# Altium footprint library CANmon.PcbLib: 21 footprints (part 1 of 2)
Each footprint in its own frame and in the unit in brackets; x right, y up, seen from the top. Pads: shape width x height; smd on the part's side, far side on the other; paste and mask are expansions set on the pad; w line width, h text height; cw(c..) or ccw(c..) is an arc to the next point about the centre after c.
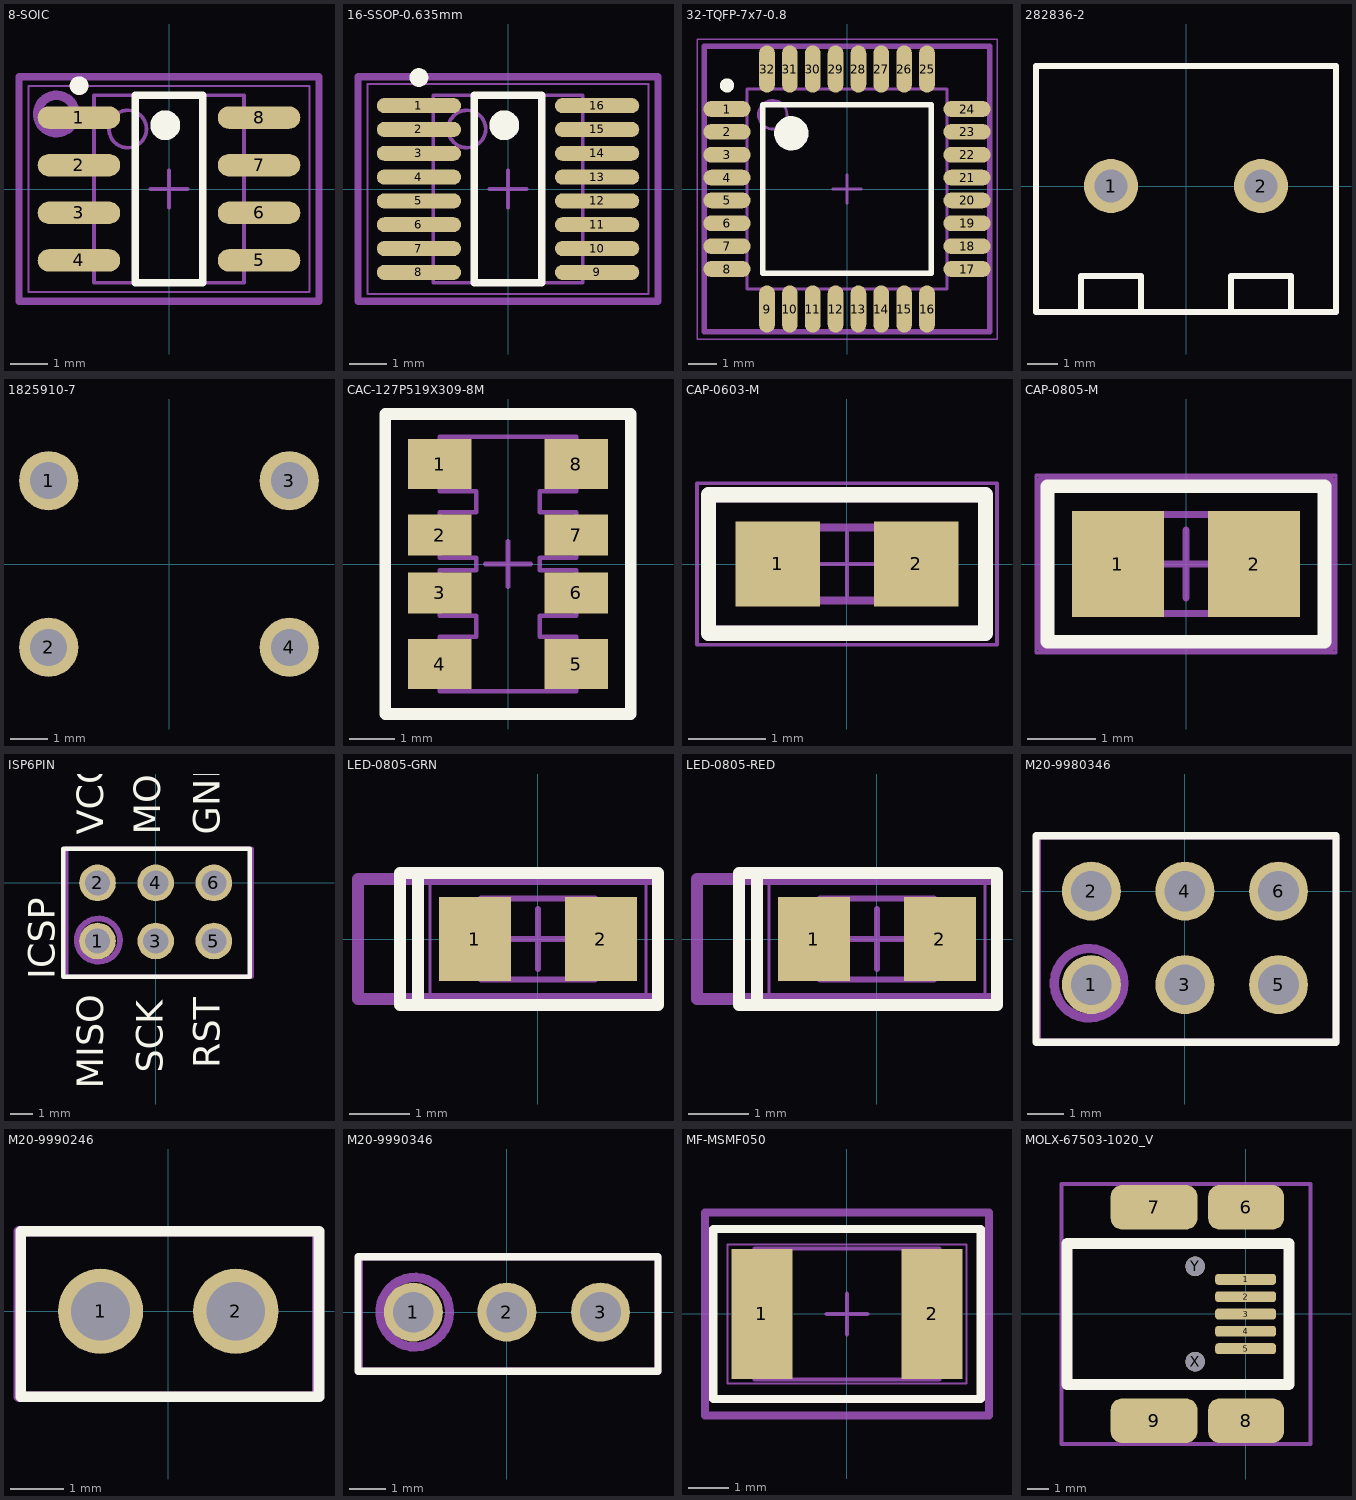
[diagram p0: the footprints below, top view; thin cyan lines are the x and y axes]

## 8-SOIC [mm] "SOIC, 8-Leads, Body 4.9x3.9mm, Pitch 1.27mm, IPC Medium Density"
height 1.75
pads (8):
  oval 2.2x0.6 smd: 1(-2.4,1.905) 2(-2.4,0.635) 3(-2.4,-0.635) 4(-2.4,-1.905) 5(2.4,-1.905) 6(2.4,-0.635) 7(2.4,0.635) 8(2.4,1.905)
Top Overlay:
  circle w0.25: c-2.4,2.755 r0.125
  circle w0.4: c-0.1,1.7 r0.2
  lines w0.2: -0.9,-2.5 -0.9,2.5 0.9,2.5 0.9,-2.5 -0.9,-2.5
Mechanical 13:
  circle w0.1: c-1.1,1.6 r0.5
  lines w0.1: -2,-2.5 -2,2.5 2,2.5 2,-2.5 -2,-2.5
Mechanical 15:
  lines w0.05: -3.75,-2.75 -3.75,2.75 3.75,2.75 3.75,-2.75 -3.75,-2.75
  lines w0.1: -0.5,0 0.5,0 ; 0,-0.5 0,0.5
Mechanical 29:
  circle w0.254: c-3,2 r0.5
  lines w0.2: -4,-3 4,-3 4,3 -4,3 -4,-3
  text ".Designator" at -2.3,-0.9 h1.52
3D body: height 1.75, standoff 0.1, extent -2,-2.5 2,2.5

## 16-SSOP-0.635mm [mm] "SOP, 16-Leads, Body 4.9x3.9mm, Pitch 0.635mm, IPC Medium Density"
height 1.76
pads (16):
  oval 2.25x0.4 smd: 1(-2.375,2.222) 2(-2.375,1.587) 3(-2.375,0.953) 4(-2.375,0.318) 5(-2.375,-0.318) 6(-2.375,-0.953) 7(-2.375,-1.587) 8(-2.375,-2.222) 9(2.375,-2.222) 10(2.375,-1.587) 11(2.375,-0.953) 12(2.375,-0.318) 13(2.375,0.318) 14(2.375,0.953) 15(2.375,1.587) 16(2.375,2.222)
Top Overlay:
  circle w0.25: c-2.375,2.973 r0.125
  circle w0.4: c-0.1,1.7 r0.2
  lines w0.2: -0.9,-2.5 -0.9,2.5 0.9,2.5 0.9,-2.5 -0.9,-2.5
Mechanical 13:
  circle w0.1: c-1.095,1.6 r0.5
  lines w0.1: -1.995,-2.5 -1.995,2.5 1.995,2.5 1.995,-2.5 -1.995,-2.5
Mechanical 15:
  lines w0.05: -3.75,-2.8 -3.75,2.8 3.75,2.8 3.75,-2.8 -3.75,-2.8
  lines w0.1: -0.5,0 0.5,0 ; 0,-0.5 0,0.5
Mechanical 29:
  lines w0.2: -4,-3 -4,3 4,3 4,-3 -4,-3
  text ".Designator" at -1.8,-0.4 h1.52
3D body: height 1.76, standoff 0.1, extent -1.995,-2.5 1.995,2.5

## 32-TQFP-7x7-0.8 [mm] "Thin QFP, 32-Leads, Body 7x7mm, Pitch 0.8mm, IPC Medium Density"
height 1.2
pads (32):
  oval 1.65x0.55 smd: 1(-4.2,2.8) 2(-4.2,2) 3(-4.2,1.2) 4(-4.2,0.4) 5(-4.2,-0.4) 6(-4.2,-1.2) 7(-4.2,-2) 8(-4.2,-2.8) 17(4.2,-2.8) 18(4.2,-2) 19(4.2,-1.2) 20(4.2,-0.4) 21(4.2,0.4) 22(4.2,1.2) 23(4.2,2) 24(4.2,2.8)
  oval 0.55x1.65 smd: 9(-2.8,-4.2) 10(-2,-4.2) 11(-1.2,-4.2) 12(-0.4,-4.2) 13(0.4,-4.2) 14(1.2,-4.2) 15(2,-4.2) 16(2.8,-4.2) 25(2.8,4.2) 26(2,4.2) 27(1.2,4.2) 28(0.4,4.2) 29(-0.4,4.2) 30(-1.2,4.2) 31(-2,4.2) 32(-2.8,4.2)
Top Overlay:
  circle w0.6: c-1.95,1.95 r0.3
  circle w0.25: c-4.2,3.625 r0.125
  lines w0.2: -2.95,-2.95 2.95,-2.95 2.95,2.95 -2.95,2.95 -2.95,-2.95
Mechanical 13:
  circle w0.1: c-2.6,2.6 r0.5
  lines w0.1: -3.5,-3.5 3.5,-3.5 3.5,3.5 -3.5,3.5 -3.5,-3.5
Mechanical 15:
  lines w0.05: -5.25,-5.25 5.25,-5.25 5.25,5.25 -5.25,5.25 -5.25,-5.25
  lines w0.1: -0.5,0 0.5,0 ; 0,-0.5 0,0.5
Mechanical 29:
  lines w0.2: -5,-5 5,-5 5,5 -5,5 -5,-5
  text ".Designator" at -1.8,-0.9 h1.52
3D body: height 1.2, standoff 0, extent -3.5,-3.5 3.5,3.5

## 282836-2 [mm]
pads (2):
  round 1.8 hole 1.1: 1(-2.5,0) 2(2.5,0)
Top Overlay:
  lines w0.2: -3.5,-4.2 -3.5,-3 -1.5,-3 -1.5,-4.2 ; 1.5,-4.2 1.5,-3 3.5,-3 3.5,-4.2 ; -5,-4.2 -5,4 5,4 5,-4.2 -5,-4.2
Mechanical 29:
  lines w0.2: -3.5,-4.2 -3.5,-3 -1.5,-3 -1.5,-4.2 ; 1.5,-4.2 1.5,-3 3.5,-3 3.5,-4.2 ; -5,-4.2 5,-4.2 5,4 -5,4 -5,-4.2
  text ".Designator" at -2.3,-0.4 h1.52
3D body "c-282836-2-h-3d.stp": height 10.2, standoff -3.3, extent -5.6,-4.2 5,4

## 1825910-7 [mm]
height 5
pads (4):
  round 1.6 hole 1: 1(-3.25,2.25) 2(-3.25,-2.25) 3(3.25,2.25) 4(3.25,-2.25)
3D body "c-1825910-7-c-3d.stp": height 5, standoff -3.51, extent -3.9,-2.995 3.9,2.995

## CAC-127P519X309-8M [mm] "Chip Array, ConvexS, 8-Leads, Pitch 1.27mm,  Body 5.20x3.10mm,  IPC Low Density"
height 1
pads (8):
  rect 1.4x1.1 smd: 1(-1.5,2.2) 4(-1.5,-2.2) 5(1.5,-2.2) 8(1.5,2.2)
  rect 1.4x0.9 smd: 2(-1.5,0.635) 3(-1.5,-0.635) 6(1.5,-0.635) 7(1.5,0.635)
Top Overlay:
  lines w0.254: -2.7,-3.3 -2.7,3.3 2.7,3.3 2.7,-3.3 -2.7,-3.3
Mechanical 13:
  lines w0.1: -1.5,-2.8 1.5,-2.8 1.5,-1.6 0.7,-1.6 0.7,-1.135 1.5,-1.135 1.5,-0.135 0.7,-0.135 0.7,0.135 1.5,0.135 1.5,1.135 0.7,1.135 0.7,1.6 1.5,1.6 1.5,2.8 -1.5,2.8 -1.5,1.6 -0.7,1.6 -0.7,1.135 -1.5,1.135 -1.5,0.135 -0.7,0.135 -0.7,-0.135 -1.5,-0.135 -1.5,-1.135 -0.7,-1.135 -0.7,-1.6 -1.5,-1.6 -1.5,-2.8
Mechanical 15:
  lines w0.05: -2.71,-3.3 2.71,-3.3 2.71,3.3 -2.71,3.3 -2.71,-3.3
  lines w0.1: -0.5,0 0.5,0 ; 0,-0.5 0,0.5
3D body "CAC-127P519X309-8M.step": height 1, standoff 0, extent -1.7,-2.8 1.7,2.8

## CAP-0603-M [mm] "Chip Capacitor, Body 1.6x0.8mm, Height 1.0mm, IPC Low Density"
height 1
pads (2):
  rect 1.1x1.1 smd: 1(-0.9,0) 2(0.9,0)
Top Overlay:
  lines w0.2: -1.8,-0.9 -1.8,0.9 1.8,0.9 1.8,-0.9 -1.8,-0.9
Mechanical 13:
  lines w0.1: -0.875,-0.475 -0.875,0.475 0.875,0.475 0.875,-0.475 -0.875,-0.475
Mechanical 15:
  lines w0.05: -0.475,0 0.475,0 ; 0,-0.475 0,0.475 ; -1.95,-1.05 -1.95,1.05 1.95,1.05 1.95,-1.05 -1.95,-1.05
Mechanical 29:
  lines w0.2: -1.8,-0.9 -1.8,0.9 1.8,0.9 1.8,-0.9 -1.8,-0.9
  text ".Designator" at -1.2,-0.5 h0.8
3D body: height 1, standoff 0, extent -0.525,-0.475 0.525,0.475
3D body: height 1, standoff 0, extent -0.875,-0.475 -0.525,0.475
3D body: height 1, standoff 0, extent 0.525,-0.475 0.875,0.475

## CAP-0805-M [mm] "Chip Capacitor, Body 2.0x1.2mm, Height 1.55mm, IPC Low Density"
height 1.55
pads (2):
  rect 1.35x1.55 smd: 1(-1,0) 2(1,0)
Top Overlay:
  lines w0.2: -2.032,-1.143 -2.032,1.143 2.032,1.143 2.032,-1.143 -2.032,-1.143
Mechanical 13:
  lines w0.1: -1.1,-0.725 -1.1,0.725 1.1,0.725 1.1,-0.725 -1.1,-0.725
Mechanical 15:
  lines w0.05: -2.2,-1.3 -2.2,1.3 2.2,1.3 2.2,-1.3 -2.2,-1.3
  lines w0.1: -0.5,0 0.5,0 ; 0,-0.5 0,0.5
Mechanical 29:
  lines w0.2: -2.1,-1.2 -2.1,1.2 2.1,1.2 2.1,-1.2 -2.1,-1.2
  text ".Designator" at -1.6,-0.4 h0.8
3D body: height 1.55, standoff 0, extent -0.6,-0.725 0.6,0.725
3D body: height 1.55, standoff 0, extent -1.1,-0.725 -0.6,0.725
3D body: height 1.55, standoff 0, extent 0.6,-0.725 1.1,0.725

## ISP6PIN [mm]
pads (6):
  round 1.6 hole 1.1: 1(-2.54,-2.54) 2(-2.54,0) 3(0,-2.54) 4(0,0) 5(2.54,-2.54) 6(2.54,0)
Top Overlay:
  lines w0.2: -4.04,-4.1 -4.04,1.5 4.1,1.5 4.1,-4.1 -4.04,-4.1
  text "ICSP" at -4.014,-4.2 h2
  text "RST" at 3.2,-8.1 h2
  text "MISO" at -1.9,-9 h2
  text "SCK" at 0.7,-8.3 h2
  text "MOSI" at 0.6,2.1 h2
  text "VCC" at -1.9,2.1 h2
  text "GND" at 3.2,2.1 h2
Mechanical 29:
  circle w0.254: c-2.5,-2.5 r0.943
  lines w0.2: -3.9,-4.1 -3.9,1.5 4.2,1.5 4.2,-4.1 -3.9,-4.1
  text ".Designator" at -1.1,-1.9 h1.52
3D body "BG030-03-X-0450-0300-X-X_revG.step": height 7.13, standoff -2.91, extent -3.79,-1.3 3.83,1.2
3D body "BG030-03-X-0450-0300-X-X_revG.step": height 7.13, standoff -2.91, extent -3.79,-3.84 3.83,-1.34

## LED-0805-GRN [mm] "Chip Diode, 2-Leads, Body 2.00x1.25mm, IPC Medium Density"
height 0.9
pads (2):
  rect 1.2x1.4 smd: 1(-1.05,0) 2(1.05,0)
Top Overlay:
  lines w0.2: -2,-1.1 -2,1.1 ; -2,-1.1 2,-1.1 2,1.1 -2,1.1 ; -2,-1.1 -2.3,-1.1 -2.3,1.1 -2,1.1
Mechanical 13:
  lines w0.1: -0.95,-0.675 0.95,-0.675 0.95,0.675 -0.95,0.675 -0.95,-0.675
Mechanical 15:
  lines w0.05: -1.8,-0.95 1.8,-0.95 1.8,0.95 -1.8,0.95 -1.8,-0.95
  lines w0.1: -0.5,0 0.5,0 ; 0,-0.5 0,0.5
Mechanical 29:
  lines w0.2: -2,-1 2,-1 2,1 -2,1 ; -2,-1 -2,1 ; -2,-1 -3,-1 -3,1 -2,1
  text ".Designator" at -1.2,-0.5 h0.8
3D body: height 0.4, standoff 0, extent 0.55,-0.675 0.95,0.675
3D body: height 0.4, standoff 0, extent -0.95,-0.675 -0.55,0.675
3D body: height 0.9, standoff 0, extent -0.55,-0.675 0.55,0.675

## LED-0805-RED [mm] "Chip Diode, 2-Leads, Body 2.00x1.25mm, IPC Medium Density"
height 0.9
pads (2):
  rect 1.2x1.4 smd: 1(-1.05,0) 2(1.05,0)
Top Overlay:
  lines w0.2: -2,-1.1 -2.3,-1.1 -2.3,1.1 -2,1.1 ; -2,-1.1 2,-1.1 2,1.1 -2,1.1 ; -2,-1.1 -2,1.1
Mechanical 13:
  lines w0.1: -0.95,-0.675 -0.95,0.675 0.95,0.675 0.95,-0.675 -0.95,-0.675
Mechanical 15:
  lines w0.05: -1.8,-0.95 -1.8,0.95 1.8,0.95 1.8,-0.95 -1.8,-0.95
  lines w0.1: -0.5,0 0.5,0 ; 0,-0.5 0,0.5
Mechanical 29:
  lines w0.2: -2,-1 2,-1 2,1 -2,1 ; -2,-1 -2,1 ; -2,-1 -3,-1 -3,1 -2,1
  text ".Designator" at -1.2,-0.5 h0.8
3D body: height 0.9, standoff 0, extent -0.55,-0.675 0.55,0.675
3D body: height 0.4, standoff 0, extent -0.95,-0.675 -0.55,0.675
3D body: height 0.4, standoff 0, extent 0.55,-0.675 0.95,0.675

## M20-9980346 [mm]
pads (6):
  round 1.6 hole 1.1: 1(-2.54,-2.54) 2(-2.54,0) 3(0,-2.54) 4(0,0) 5(2.54,-2.54) 6(2.54,0)
Top Overlay:
  lines w0.2: -4.04,-4.1 4.1,-4.1 4.1,1.5 -4.04,1.5 -4.04,-4.1
Mechanical 29:
  circle w0.254: c-2.6,-2.5 r0.943
  lines w0.2: -4,-4.1 -4,1.5 4.1,1.5 4.1,-4.1 -4,-4.1
  text ".Designator" at -1.2,-1.9 h1.52
3D body "BG030-03-X-0450-0300-X-X_revG.step": height 7.13, standoff -2.91, extent -3.79,-3.84 3.83,-1.34
3D body "BG030-03-X-0450-0300-X-X_revG.step": height 7.13, standoff -2.91, extent -3.79,-1.3 3.83,1.2

## M20-9990246 [mm]
pads (2):
  round 1.6 hole 1.1: 1(-1.27,0) 2(1.27,0)
Top Overlay:
  lines w0.2: -2.77,-1.6 2.83,-1.6 2.83,1.5 -2.77,1.5 -2.77,-1.6
Mechanical 29:
  lines w0.2: -2.8,-1.6 2.8,-1.6 2.8,1.5 -2.8,1.5 -2.8,-1.6
  text ".Designator" at -2.2,-0.6 h1.52
3D body "BG030-02-X-0450-0300-X-X_revG.step": height 7.13, standoff -2.91, extent -2.51,-1.3 2.57,1.2

## M20-9990346 [mm]
pads (3):
  round 1.6 hole 1.1: 1(-2.54,0) 2(0,0) 3(2.54,0)
Top Overlay:
  lines w0.2: -4.04,-1.6 -4.04,1.5 4.1,1.5 4.1,-1.6 -4.04,-1.6
Mechanical 29:
  circle w0.254: c-2.5,0 r0.943
  lines w0.2: -4,-1.6 -4,1.5 4.1,1.5 4.1,-1.6 -4,-1.6
  text ".Designator" at -0.6,-0.8 h1.52
3D body "BG030-03-X-0450-0300-X-X_revG.step": height 7.13, standoff -2.91, extent -3.79,-1.3 3.83,1.2

## MF-MSMF050 [mm] "SMD, 2-Leads, Body 4.55x3.24mm"
height 0.85
pads (2):
  rect 1.5x3.2 smd: 1(-2.1,0) 2(2.1,0)
Top Overlay:
  lines w0.2: -3.3,-2.1 -3.3,2.1 3.3,2.1 3.3,-2.1 -3.3,-2.1
Mechanical 13:
  lines w0.1: -2.275,-1.62 -2.275,-0.5 ccw(c-2.275,0) -2.275,0.5 -2.275,1.62 2.275,1.62 2.275,0.5 ccw(c2.275,0) 2.275,-0.5 2.275,-1.62 -2.275,-1.62
Mechanical 15:
  lines w0.05: -2.95,-1.72 2.95,-1.72 2.95,1.72 -2.95,1.72 -2.95,-1.72
  lines w0.1: -0.5,0 0.5,0 ; 0,-0.5 0,0.5
Mechanical 29:
  lines w0.2: -3.5,-2.5 -3.5,2.5 3.5,2.5 3.5,-2.5 -3.5,-2.5
  text ".Designator" at -2.3,-0.9 h1.52
3D body: height 0.85, standoff 0, extent -2.276,-1.621 2.276,1.62

## MOLX-67503-1020_V [mm] "Mini USB Connector, SMT, Righer Angle"
pads (11):
  rrect50% 2.8x0.5 smd: 1(0,1.6) 2(0,0.8) 3(0,0) 4(0,-0.8) 5(0,-1.6)
  rrect50% 3.5x2.05 smd: 6(0.025,4.925) 8(0.025,-4.925)
  rrect50% 4x2.05 smd: 7(-4.225,4.925) 9(-4.225,-4.925)
  round 0.9 hole 0.9 unplated: X(-2.325,-2.2) Y(-2.325,2.2)
Top Overlay:
  lines w0.5: -8.25,-3.25 2,-3.25 2,3.25 -8.25,3.25 -8.25,-3.25
Mechanical 29:
  lines w0.2: -8.5,-6 -8.5,6 3,6 3,-6 -8.5,-6
  text ".Designator" at -3.6,-0.5 h1.52
3D body "USB Mini B - Connector.stp": height 3.95, standoff -1, extent -8.217,-4.957 0.783,4.943